# Altium footprint library Chips.PcbLib: 3 footprints
Each footprint in its own frame and in the unit in brackets; x right, y up, seen from the top. Pads: shape width x height; smd on the part's side, far side on the other; paste and mask are expansions set on the pad; w line width, h text height; cw(c..) or ccw(c..) is an arc to the next point about the centre after c.
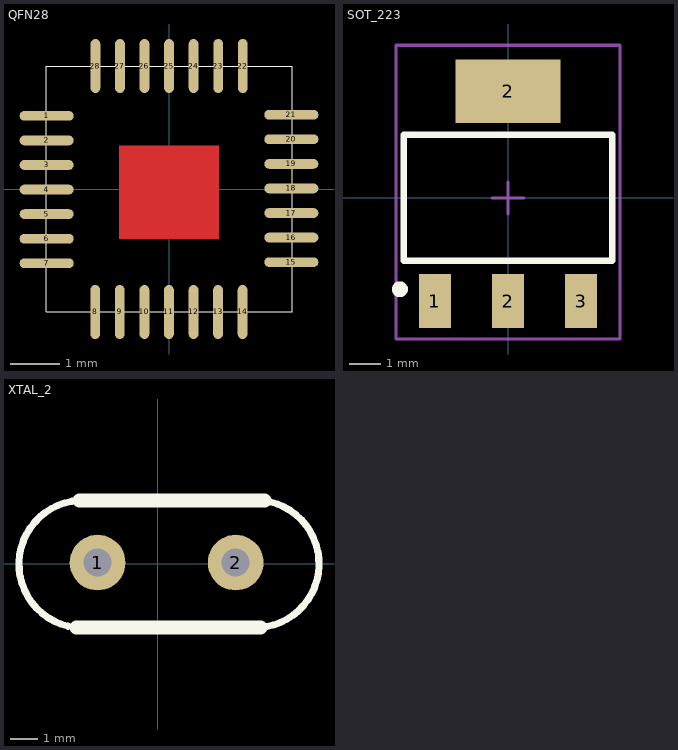
[diagram p0: the footprints below, top view; thin cyan lines are the x and y axes]

## QFN28 [mm] "[CP2102, etc]"
height 1.1
pads (28):
  oval 1.1x0.2 smd: 1(-2.489,1.489) 2(-2.489,0.989) 3(-2.489,0.489) 4(-2.489,-0.011) 5(-2.489,-0.511) 6(-2.489,-1.011) 7(-2.489,-1.511) 15(2.489,-1.489) 16(2.489,-0.989) 17(2.489,-0.489) 18(2.489,0.011) 19(2.489,0.511) 20(2.489,1.011) 21(2.489,1.511)
  oval 0.2x1.1 smd: 8(-1.501,-2.502) 9(-1.001,-2.502) 10(-0.501,-2.502) 11(-0.001,-2.502) 12(0.499,-2.502) 13(0.999,-2.502) 14(1.499,-2.502) 22(1.501,2.502) 23(1.001,2.502) 24(0.501,2.502) 25(0.001,2.502) 26(-0.499,2.502) 27(-0.999,2.502) 28(-1.499,2.502)
Top Layer:
  rectangle: -1.016,-1.016 1.016,0.889
Top Overlay:
  lines w0.025: -2.496,-2.499 2.504,-2.499 2.504,2.501 -2.496,2.501 -2.496,-2.499
3D body: height 0.76, standoff 0, extent -2.413,-2.413 2.413,2.413

## SOT_223 [mm] "[AMS1117-XX, etc]"
height 1.8
pads (4):
  rect 1x1.7 smd: 1(-2.3,-3.25) 2(0,-3.25) 3(2.3,-3.25)
  rect 3.3x2 smd: 2(0,3.349)
Top Overlay:
  circle w0.25: c-3.401,-2.875 r0.125
  lines w0.2: -3.276,-1.981 3.276,-1.981 3.276,1.981 -3.276,1.981 -3.276,-1.981
Mechanical 15:
  lines w0.1: -0.5,0 0.5,0 ; 0,-0.5 0,0.5 ; -3.526,-4.44 3.526,-4.44 3.526,4.801 -3.526,4.801 -3.526,-4.44
3D body "SOT_223.STEP": height 1.93, standoff 0, extent -3.25,-3.507 3.25,3.508

## XTAL_2 [mm] "Crystal Oscillator"
height 2.1
pads (2):
  round 2 hole 1: 1(-2.157,0.035) 2(2.796,0.035)
Top Overlay:
  lines w0.254: -2.956,-2.294 cw(c-2.688,-0.02) -2.815,2.266 ; 3.625,-2.296 ccw(c3.498,-0.01) 3.766,2.264
  lines w0.5: -2.922,-2.289 3.682,-2.289 ; -2.815,2.266 3.84,2.266
3D body "SW3dPS-HP49US.STEP": height 3.5, standoff -4, extent -5.294,-2.364 6.056,2.286